# Altium schematic symbol library LDO.SchLib: 2 symbols
Pins are listed as number, name and electrical type; pins without a type are passive.

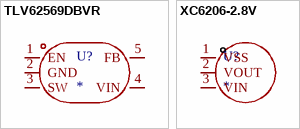
[diagram p0: symbols TLV62569DBVR to XC6206-2.8V]

## TLV62569DBVR
designator U?
footprint SOT-23-5_L3.0-W1.7-P0.95-LS2.8-BR
pins: 1 EN, 2 GND, 3 SW, 4 VIN, 5 FB

## XC6206-2.8V
designator U?
footprint SOT-23-3_L2.9-W1.6-P1.90-LS2.8-BR
pins: 1 VSS, 2 VOUT, 3 VIN